# Altium integrated library Analog Devices Data Converters Analog-to-Digital Converters.IntLib: 2400 symbols (part 24 of 338)
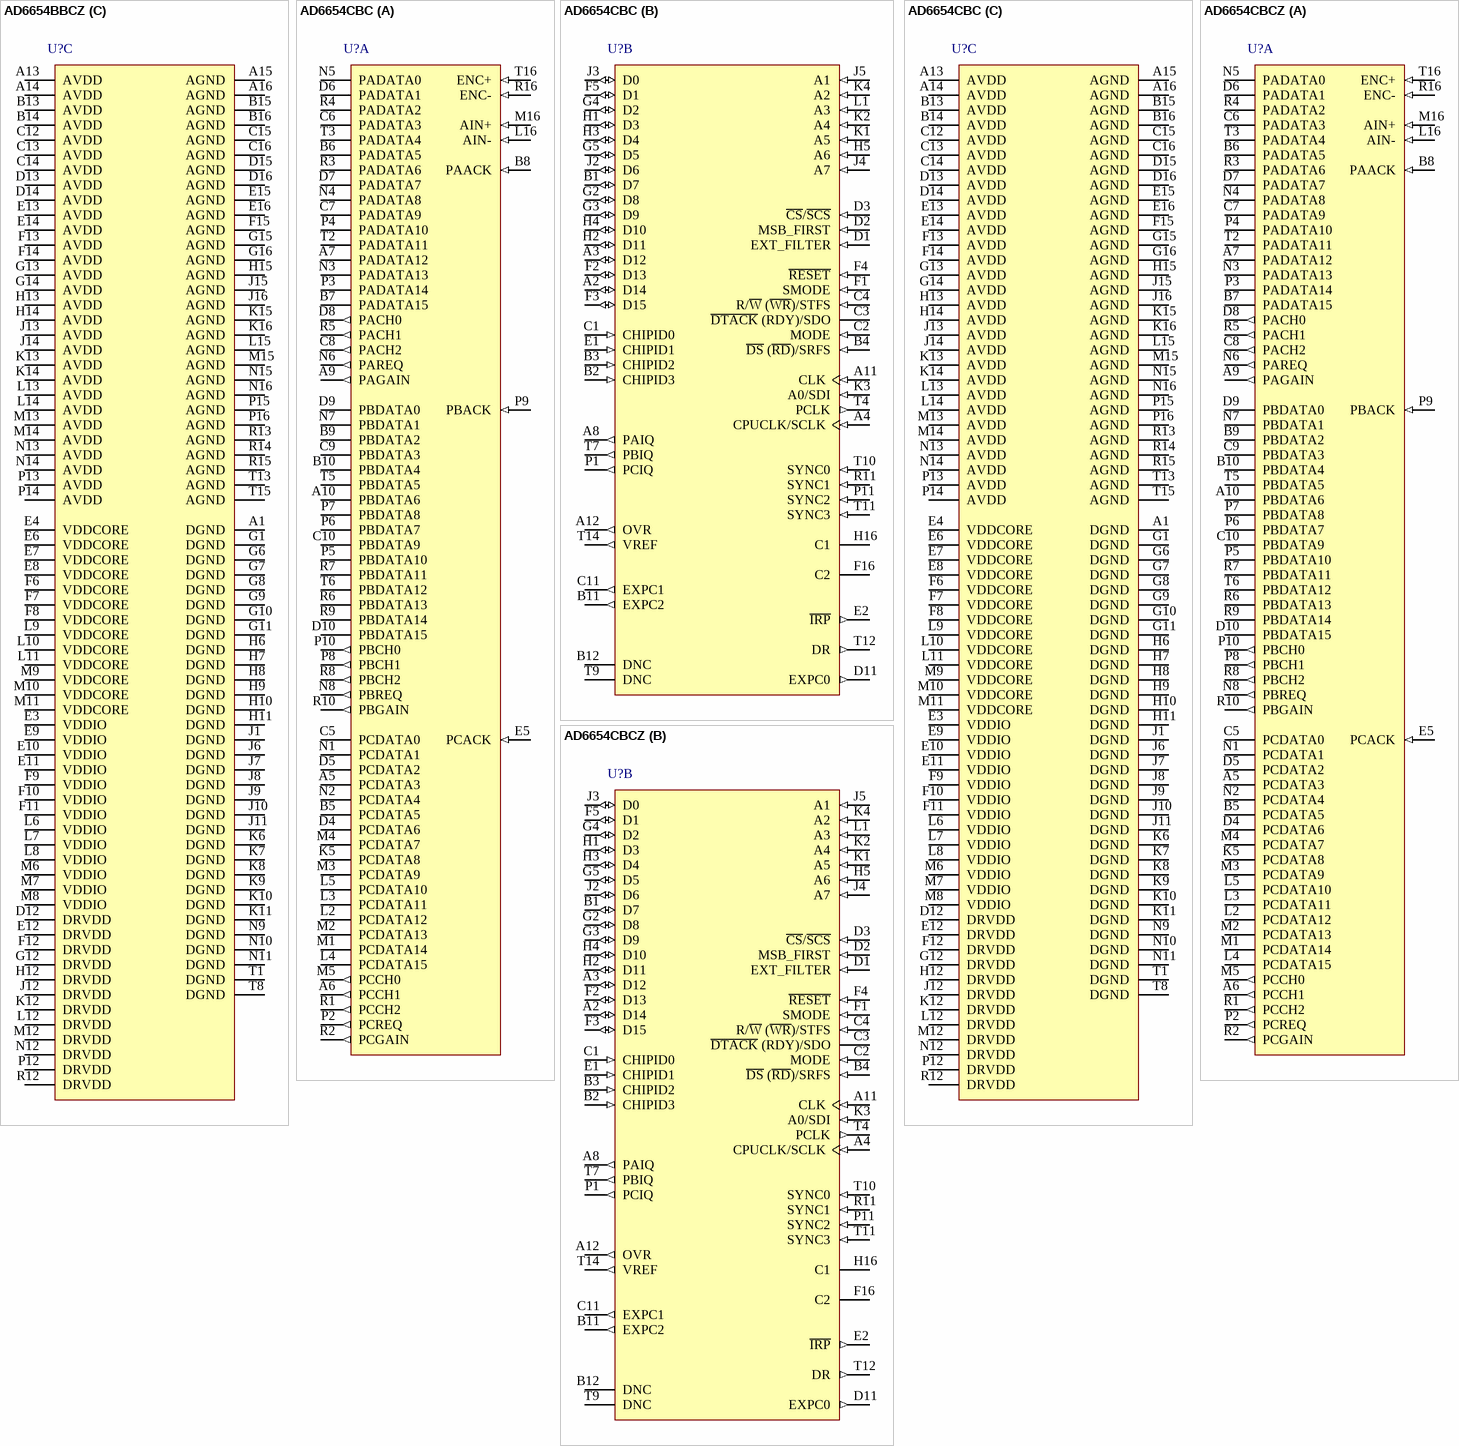
[diagram p168: symbols AD6654BBCZ to AD6654CBCZ]

## AD6654CBC
designator U?
Single 14-Bit Wideband IF to Baseband Receiver with Parallel Interface, 92.16MSPS, 0 to +70 degC, BC-256-2, Tray; Part Number: AD6654; Manufacturer: Analog Devices; Resolution (Bits): 14; Channels: 1; Interface: Par; DatasheetVersion: Rev.0; PackageVersion: 022007-B; PackageReference: BC-256-2; PackageDescription: 256-Ball Chip Scale Package Ball Grid Array [CSP_BGA]; RoHS: N; Packing: Tray; Mounting Technology: Surface Mount; Code_JEDEC: MO-192-AAF-1*; ComponentLink1Description: Manufacturer URL; ComponentLink1URL: http://www.analog.com/en/index.html; ComponentLink2Description: Datasheet; ComponentLink2URL: http://www.analog.com/static/imported-files/data_sheets/AD6654.pdf; ComponentLink3Description: Package Specification; ComponentLink3URL: http://www.analog.com/static/imported-files/packages/5685336469362195555BC_256_2.pdf; ComponentLink4Description: Product URL; ComponentLink4URL: http://www.analog.com/en/analog-to-digital-converters/ad-converters/ad6654/products/product.html
footprint BC-256-2 (BGA, 256-Leads, Body 17x17mm, Pitch 1mm)
part A pins: A5 PCDATA3 (hiz) "Parallel Output Port C Data Bus.", A6 PCCH1 (out) "Channel Indicator Output Port C.", A7 PADATA12 (hiz) "Parallel Output Port A Data Bus.", A9 PAGAIN (out) "Parallel Port A Gain Word Output Indicator. Logic 1 indicates gain word on data bus.", A10 PBDATA6 (hiz) "Parallel Output Port B Data Bus.", B5 PCDATA5 (hiz) "Parallel Output Port C Data Bus.", B6 PADATA5 (hiz) "Parallel Output Port A Data Bus.", B7 PADATA15 (hiz) "Parallel Output Port A Data Bus.", B8 PAACK (in) "Parallel Port A Acknowledge (Active High).", B9 PBDATA2 (hiz) "Parallel Output Port B Data Bus.", B10 PBDATA4 (hiz) "Parallel Output Port B Data Bus.", C5 PCDATA0 (hiz) "Parallel Output Port C Data Bus.", C6 PADATA3 (hiz) "Parallel Output Port A Data Bus.", C7 PADATA9 (hiz) "Parallel Output Port A Data Bus.", C8 PACH2 (out) "Channel Indicator Output Port A", C9 PBDATA3 (hiz) "Parallel Output Port B Data Bus.", C10 PBDATA9 (hiz) "Parallel Output Port B Data Bus.", D4 PCDATA6 (hiz) "Parallel Output Port C Data Bus.", D5 PCDATA2 (hiz) "Parallel Output Port C Data Bus.", D6 PADATA1 (hiz) "Parallel Output Port A Data Bus.", D7 PADATA7 (hiz) "Parallel Output Port A Data Bus.", D8 PACH0 (out) "Channel Indicator Output Port A.", D9 PBDATA0 (hiz) "Parallel Output Port B Data Bus.", D10 PBDATA15 (hiz) "Parallel Output Port B Data Bus.", E5 PCACK (in) "Parallel Port C Acknowledge (Active High).", K5 PCDATA8 (hiz) "Parallel Output Port C Data Bus.", L2 PCDATA12 (hiz) "Parallel Output Port C Data Bus.", L3 PCDATA11 (hiz) "Parallel Output Port C Data Bus.", L4 PCDATA15 (hiz) "Parallel Output Port C Data Bus.", L5 PCDATA10 (hiz) "Parallel Output Port C Data Bus.", L16 AIN- (in) "Differential Analog Input", M1 PCDATA14 (hiz) "Parallel Output Port C Data Bus.", M2 PCDATA13 (hiz) "Parallel Output Port C Data Bus.", M3 PCDATA9 (hiz) "Parallel Output Port C Data Bus.", M4 PCDATA7 (hiz) "Parallel Output Port C Data Bus.", M5 PCCH0 (out) "Channel Indicator Output Port C.", M16 AIN+ (in) "Differential Analog Input.", N1 PCDATA1 (hiz) "Parallel Output Port C Data Bus.", N2 PCDATA4 (hiz) "Parallel Output Port C Data Bus.", N3 PADATA13 (hiz) "Parallel Output Port A Data Bus.", N4 PADATA8 (hiz) "Parallel Output Port A Data Bus.", N5 PADATA0 (hiz) "Parallel Output Port A Data Bus.", N6 PAREQ (out) "Parallel Port A Request (Active High).", N7 PBDATA1 (hiz) "Parallel Output Port B Data Bus.", N8 PBREQ (out) "Parallel Port B Request (Active High)", P2 PCREQ (out) "Parallel Port C Request (Active High).", P3 PADATA14 (hiz) "Parallel Output Port A Data Bus.", P4 PADATA10 (hiz) "Parallel Output Port A Data Bus.", P5 PBDATA10 (hiz) "Parallel Output Port B Data Bus.", P6 PBDATA7 (hiz) "Parallel Output Port B Data Bus.", P7 PBDATA8 (hiz) "Parallel Output Port B Data Bus.", P8 PBCH1 (out) "Channel Indicator Output Port B", P9 PBACK (in) "Parallel Port B Acknowledge (Active High).", P10 PBCH0 (out) "Channel Indicator Output Port B", R1 PCCH2 (out) "Channel Indicator Output Port C.", R2 PCGAIN (out) "Parallel Port C Gain word Output Indicator. Logic 1 indicates gain word on data bus.", R3 PADATA6 (hiz) "Parallel Output Port A Data Bus.", R4 PADATA2 (hiz) "Parallel Output Port A Data Bus.", R5 PACH1 (out) "Channel Indicator Output Port A.", R6 PBDATA13 (hiz) "Parallel Output Port B Data Bus.", R7 PBDATA11 (hiz) "Parallel Output Port B Data Bus.", R8 PBCH2 (out) "Channel Indicator Output Port B", R9 PBDATA14 (hiz) "Parallel Output Port B Data Bus.", R10 PBGAIN (out) "Parallel Port B Gain Word Output Indicator. Logic 1 indicates gain word on data bus.", R16 ENC- (in) "Differential Encode Input.", T2 PADATA11 (hiz) "Parallel Output Port A Data Bus.", T3 PADATA4 (hiz) "Parallel Output Port A Data Bus.", T5 PBDATA5 (hiz) "Parallel Output Port B Data Bus.", T6 PBDATA12 (hiz) "Parallel Output Port B Data Bus.", T16 ENC+ (in) "Differential Encode Input. Conversion initiated on rising edge."
part B pins: A2 D14 (io) "Bidirectional Microport Data. This bus is three-stated when C\S\ is high.", A3 D12 (io) "Bidirectional Microport Data. This bus is three-stated when C\S\ is high.", A4 CPUCLK/SCLK (in) "Microport CLK Input. (Input only.)/Serial Clock. Should have a rise/fall time of 3ns max.", A8 PAIQ (out) "Parallel Port A I/Q Data Indicator. Logic 1 indicates I data on data bus.", A11 CLK (in) "DDC Clock Input.", A12 OVR (out) "Overange Bit. A logic high indicates analog input exceeds +/-FS.", B1 D7 (io) "Bidirectional Microport Data. This bus is three-stated when C\S\ is high.", B2 CHIPID3 (in) "Chip ID Input Pins.", B3 CHIPID2 (in) "Chip ID Input Pins.", B4 ~{DS} (~{RD})/SRFS (in) "Active Low Data Strobe, MODE = 1. Active low read strobe when MODE = 0./Serial Receive Frame Sync.", B11 EXPC2 (out) "External VGA Gain Control Bits. GND all pins if not used.", B12 DNC "Do Not Connect.", C1 CHIPID0 (in) "Chip ID Input Pins.", C2 MODE (in) "Mode Select. Logic 0 = Intel?mode, Logic 1 = Motorola mode.", C3 ~{DTACK} (RDY)/SDO (hiz) "Active Low Data Acknowledge, MODE = 1. Microport status pin when MODE = 0. Terminate to VDDIO through external 1 k ohm pull-up resistor./ Serial Port Data Output. Terminate to VDDIO through external 1 kO pull-up resistor.", C4 R/~{W} (~{WR})/STFS (in) "Read/Write Strobe, MODE = 1. Active low write strobe when MODE = 0./ Serial Transmit Frame Sync.", C11 EXPC1 (out) "External VGA Gain Control Bits. GND all pins if not used.", D1 EXT_FILTER (in) "PLL Loop Filter (Analog Pin). Connect to VDDCORE through series 250 ohm and 0.01 µF capacitor.", D2 MSB_FIRST (in) "Most Significant Bit_First. Selects MSB_FIRST into SDI pin, and MSB_FIRST out of SDO pin. Logic 1 = MSB_FIRST; Logic 0 = LSB_FIRST", D3 ~{CS}/~{SCS} (in) "Active Low Chip Select. Logic 1 three-states the microport data bus./ Serial Chip Select.", D11 EXPC0 (out) "External VGA Gain Control Bits. GND all pins if not used.", E1 CHIPID1 (in) "Chip ID Input Pins.", E2 ~{IRP} (out) "Interrupt Pin (Active Low). Terminate to VDDIO through external 1 k ohm pull-up resistor.", F1 SMODE (in) "Serial Mode Select.", F2 D13 (io) "Bidirectional Microport Data. This bus is three-stated when C\S\ is high.", F3 D15 (io) "Bidirectional Microport Data. This bus is three-stated when C\S\ is high.", F4 ~{RESET} (in) "Master Reset, Active Low.", F5 D1 (io) "Bidirectional Microport Data. This bus is three-stated when C\S\ is high.", F16 C2 "Compensation Pin for ADC Voltage Reference. Bypass to AGND with 0.1 µF chip capacitor.", G2 D8 (io) "Bidirectional Microport Data. This bus is three-stated when C\S\ is high.", G3 D9 (io) "Bidirectional Microport Data. This bus is three-stated when C\S\ is high.", G4 D2 (io) "Bidirectional Microport Data. This bus is three-stated when C\S\ is high.", G5 D5 (io) "Bidirectional Microport Data. This bus is three-stated when C\S\ is high.", H1 D3 (io) "Bidirectional Microport Data. This bus is three-stated when C\S\ is high.", H2 D11 (io) "Bidirectional Microport Data. This bus is three-stated when C\S\ is high.", H3 D4 (io) "Bidirectional Microport Data. This bus is three-stated when C\S\ is high.", H4 D10 (io) "Bidirectional Microport Data. This bus is three-stated when C\S\ is high.", H5 A6 (in) "Microport Address Bus.", H16 C1 "Compensation Pin for ADC Voltage Reference. Bypass to AGND with 0.1 µF chip capacitor.", J2 D6 (io) "Bidirectional Microport Data. This bus is three-stated when C\S\ is high.", J3 D0 (io) "Bidirectional Microport Data. This bus is three-stated when C\S\ is high.", J4 A7 (in) "Microport Address Bus.", J5 A1 (in) "Microport Address Bus.", K1 A5 (in) "Microport Address Bus.", K2 A4 (in) "Microport Address Bus.", K3 A0/SDI (in) "Serial Port Data Input.", K4 A2 (in) "Microport Address Bus.", L1 A3 (in) "Microport Address Bus.", P1 PCIQ (out) "Parallel Port C I/Q Data Indicator. Logic 1 indicates I data on data bus.", P11 SYNC2 (in) "Synchronization Input 2.", R11 SYNC1 (in) "Synchronization Input 1.", T4 PCLK (out) "Parallel Output Port Clock. PCLK is bi-directional: master mode = output, slave mode = input.", T7 PBIQ (out) "Parallel Port B I/Q Data Indicator. Logic 1 indicates I data on data bus.", T9 DNC "Do Not Connect.", T10 SYNC0 (in) "Synchronization Input 0. SYNC pins are independent of channels.", T11 SYNC3 (in) "Synchronization Input 3.", T12 DR (out) "Data Ready. Inverted and delayed representation of ENC+ used for driving the DDC CLK input.", T14 VREF (out) "2.4 V Fixed Internal Voltage Reference. Bypass to AGND with 0.1 uF chip capacitor."
part C pins: A1 DGND (power) "Digital Core and I/O Ground.", A13 AVDD (power) "5 V Analog ADC Core Supply.", A14 AVDD (power) "5 V Analog ADC Core Supply.", A15 AGND (power) "Analog ADC Ground.", A16 AGND (power) "Analog ADC Ground.", B13 AVDD (power) "5 V Analog ADC Core Supply.", B14 AVDD (power) "5 V Analog ADC Core Supply.", B15 AGND (power) "Analog ADC Ground.", B16 AGND (power) "Analog ADC Ground.", C12 AVDD (power) "5 V Analog ADC Core Supply.", C13 AVDD (power) "5 V Analog ADC Core Supply.", C14 AVDD (power) "5 V Analog ADC Core Supply.", C15 AGND (power) "Analog ADC Ground.", C16 AGND (power) "Analog ADC Ground.", D12 DRVDD (power) "3.3 V ADC Output Driver Supply", D13 AVDD (power) "5 V Analog ADC Core Supply.", D14 AVDD (power) "5 V Analog ADC Core Supply.", D15 AGND (power) "Analog ADC Ground.", D16 AGND (power) "Analog ADC Ground.", E3 VDDIO (power) "3.3 V Digital DDC I/O Supply.", E4 VDDCORE (power) "1.8 V Digital DDC Core Supply", E6 VDDCORE (power) "1.8 V Digital DDC Core Supply", E7 VDDCORE (power) "1.8 V Digital DDC Core Supply", E8 VDDCORE (power) "1.8 V Digital DDC Core Supply", E9 VDDIO (power) "3.3 V Digital DDC I/O Supply.", E10 VDDIO (power) "3.3 V Digital DDC I/O Supply.", E11 VDDIO (power) "3.3 V Digital DDC I/O Supply.", E12 DRVDD (power) "3.3 V ADC Output Driver Supply", E13 AVDD (power) "5 V Analog ADC Core Supply.", E14 AVDD (power) "5 V Analog ADC Core Supply.", E15 AGND (power) "Analog ADC Ground.", E16 AGND (power) "Analog ADC Ground.", F6 VDDCORE (power) "1.8 V Digital DDC Core Supply", F7 VDDCORE (power) "1.8 V Digital DDC Core Supply", F8 VDDCORE (power) "1.8 V Digital DDC Core Supply", F9 VDDIO (power) "3.3 V Digital DDC I/O Supply.", F10 VDDIO (power) "3.3 V Digital DDC I/O Supply.", F11 VDDIO (power) "3.3 V Digital DDC I/O Supply.", F12 DRVDD (power) "3.3 V ADC Output Driver Supply", F13 AVDD (power) "5 V Analog ADC Core Supply.", F14 AVDD (power) "5 V Analog ADC Core Supply.", F15 AGND (power) "Analog ADC Ground.", G1 DGND (power) "Digital Core and I/O Ground.", G6 DGND (power) "Digital Core and I/O Ground.", G7 DGND (power) "Digital Core and I/O Ground.", G8 DGND (power) "Digital Core and I/O Ground.", G9 DGND (power) "Digital Core and I/O Ground.", G10 DGND (power) "Digital Core and I/O Ground.", G11 DGND (power) "Digital Core and I/O Ground.", G12 DRVDD (power) "3.3 V ADC Output Driver Supply", G13 AVDD (power) "5 V Analog ADC Core Supply.", G14 AVDD (power) "5 V Analog ADC Core Supply.", G15 AGND (power) "Analog ADC Ground.", G16 AGND (power) "Analog ADC Ground.", H6 DGND (power) "Digital Core and I/O Ground.", H7 DGND (power) "Digital Core and I/O Ground.", H8 DGND (power) "Digital Core and I/O Ground.", H9 DGND (power) "Digital Core and I/O Ground.", H10 DGND (power) "Digital Core and I/O Ground.", H11 DGND (power) "Digital Core and I/O Ground.", H12 DRVDD (power) "3.3 V ADC Output Driver Supply", H13 AVDD (power) "5 V Analog ADC Core Supply.", H14 AVDD (power) "5 V Analog ADC Core Supply.", H15 AGND (power) "Analog ADC Ground.", J1 DGND (power) "Digital Core and I/O Ground.", J6 DGND (power) "Digital Core and I/O Ground.", J7 DGND (power) "Digital Core and I/O Ground.", J8 DGND (power) "Digital Core and I/O Ground.", J9 DGND (power) "Digital Core and I/O Ground.", J10 DGND (power) "Digital Core and I/O Ground.", J11 DGND (power) "Digital Core and I/O Ground.", J12 DRVDD (power) "3.3 V ADC Output Driver Supply", J13 AVDD (power) "5 V Analog ADC Core Supply.", J14 AVDD (power) "5 V Analog ADC Core Supply.", J15 AGND (power) "Analog ADC Ground.", J16 AGND (power) "Analog ADC Ground.", K6 DGND (power) "Digital Core and I/O Ground.", K7 DGND (power) "Digital Core and I/O Ground.", K8 DGND (power) "Digital Core and I/O Ground.", K9 DGND (power) "Digital Core and I/O Ground.", K10 DGND (power) "Digital Core and I/O Ground.", K11 DGND (power) "Digital Core and I/O Ground.", K12 DRVDD (power) "3.3 V ADC Output Driver Supply", K13 AVDD (power) "5 V Analog ADC Core Supply.", K14 AVDD (power) "5 V Analog ADC Core Supply.", K15 AGND (power) "Analog ADC Ground.", K16 AGND (power) "Analog ADC Ground.", L6 VDDIO (power) "3.3 V Digital DDC I/O Supply.", L7 VDDIO (power) "3.3 V Digital DDC I/O Supply.", L8 VDDIO (power) "3.3 V Digital DDC I/O Supply.", L9 VDDCORE (power) "1.8 V Digital DDC Core Supply", L10 VDDCORE (power) "1.8 V Digital DDC Core Supply", L11 VDDCORE (power) "1.8 V Digital DDC Core Supply", L12 DRVDD (power) "3.3 V ADC Output Driver Supply", L13 AVDD (power) "5 V Analog ADC Core Supply.", L14 AVDD (power) "5 V Analog ADC Core Supply.", L15 AGND (power) "Analog ADC Ground.", M6 VDDIO (power) "3.3 V Digital DDC I/O Supply.", M7 VDDIO (power) "3.3 V Digital DDC I/O Supply.", M8 VDDIO (power) "3.3 V Digital DDC I/O Supply.", M9 VDDCORE (power) "1.8 V Digital DDC Core Supply", M10 VDDCORE (power) "1.8 V Digital DDC Core Supply", M11 VDDCORE (power) "1.8 V Digital DDC Core Supply", M12 DRVDD (power) "3.3 V ADC Output Driver Supply", M13 AVDD (power) "5 V Analog ADC Core Supply.", M14 AVDD (power) "5 V Analog ADC Core Supply.", M15 AGND (power) "Analog ADC Ground.", N9 DGND (power) "Digital Core and I/O Ground.", N10 DGND (power) "Digital Core and I/O Ground.", N11 DGND (power) "Digital Core and I/O Ground.", N12 DRVDD (power) "3.3 V ADC Output Driver Supply", N13 AVDD (power) "5 V Analog ADC Core Supply.", N14 AVDD (power) "5 V Analog ADC Core Supply.", N15 AGND (power) "Analog ADC Ground.", N16 AGND (power) "Analog ADC Ground.", P12 DRVDD (power) "3.3 V ADC Output Driver Supply", P13 AVDD (power) "5 V Analog ADC Core Supply.", P14 AVDD (power) "5 V Analog ADC Core Supply.", P15 AGND (power) "Analog ADC Ground.", P16 AGND (power) "Analog ADC Ground.", R12 DRVDD (power) "3.3 V ADC Output Driver Supply", R13 AGND (power) "Analog ADC Ground.", R14 AGND (power) "Analog ADC Ground.", R15 AGND (power) "Analog ADC Ground.", T1 DGND (power) "Digital Core and I/O Ground.", T8 DGND (power) "Digital Core and I/O Ground.", T13 AGND (power) "Analog ADC Ground.", T15 AGND (power) "Analog ADC Ground."

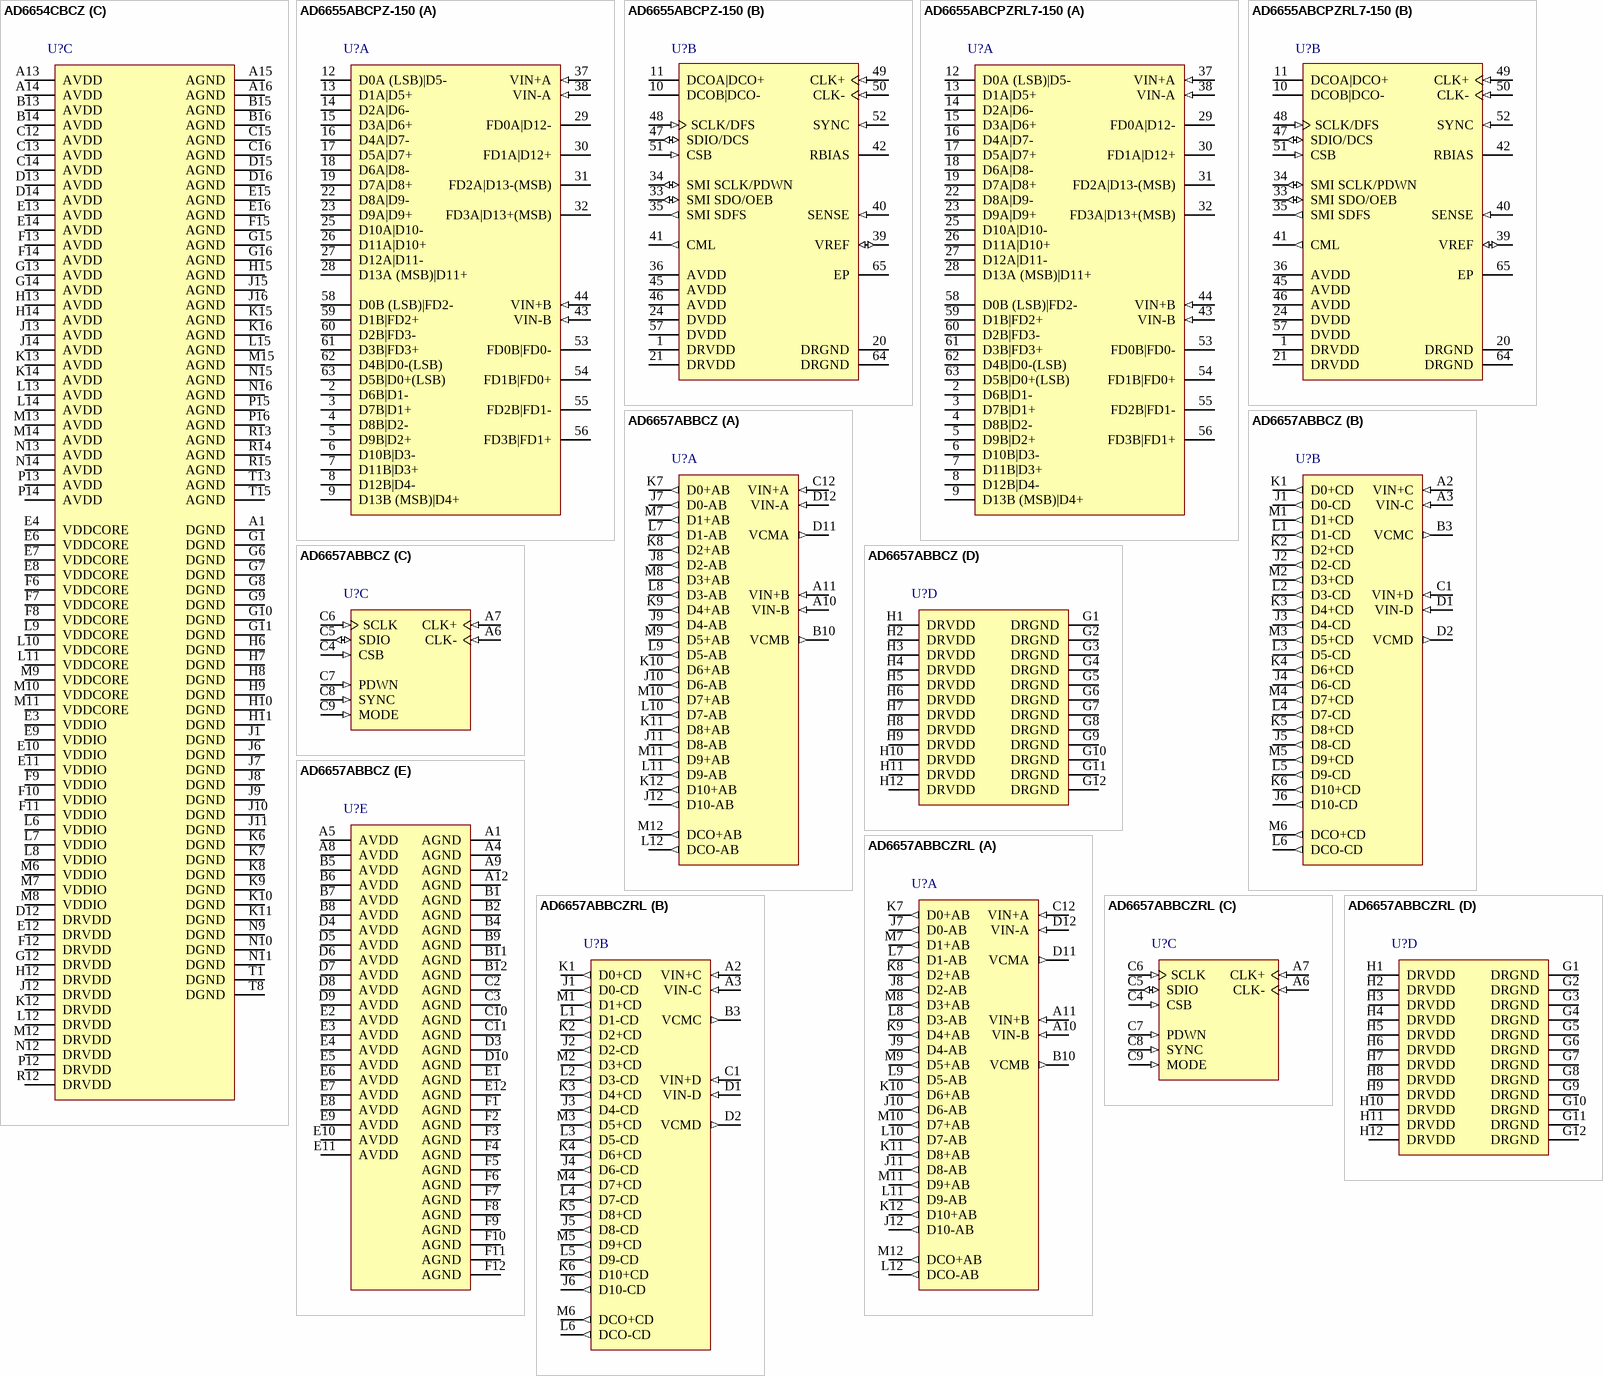
[diagram p11: symbols AD6654CBCZ to AD6657ABBCZRL]

## AD6654CBCZ
designator U?
Single 14-Bit Wideband IF to Baseband Receiver with Parallel Interface, 92.16MSPS, 0 to +70 degC, BC-256-2, Pb-Free, Tray; Part Number: AD6654; Manufacturer: Analog Devices; Resolution (Bits): 14; Channels: 1; Interface: Par; DatasheetVersion: Rev.0; PackageVersion: 022007-B; PackageReference: BC-256-2; PackageDescription: 256-Ball Chip Scale Package Ball Grid Array [CSP_BGA]; RoHS: Y; Packing: Tray; Mounting Technology: Surface Mount; Code_JEDEC: MO-192-AAF-1*; ComponentLink1Description: Manufacturer URL; ComponentLink1URL: http://www.analog.com/en/index.html; ComponentLink2Description: Datasheet; ComponentLink2URL: http://www.analog.com/static/imported-files/data_sheets/AD6654.pdf; ComponentLink3Description: Package Specification; ComponentLink3URL: http://www.analog.com/static/imported-files/packages/5685336469362195555BC_256_2.pdf; ComponentLink4Description: Product URL; ComponentLink4URL: http://www.analog.com/en/analog-to-digital-converters/ad-converters/ad6654/products/product.html
footprint BC-256-2 (BGA, 256-Leads, Body 17x17mm, Pitch 1mm)
part A pins: A5 PCDATA3 (hiz) "Parallel Output Port C Data Bus.", A6 PCCH1 (out) "Channel Indicator Output Port C.", A7 PADATA12 (hiz) "Parallel Output Port A Data Bus.", A9 PAGAIN (out) "Parallel Port A Gain Word Output Indicator. Logic 1 indicates gain word on data bus.", A10 PBDATA6 (hiz) "Parallel Output Port B Data Bus.", B5 PCDATA5 (hiz) "Parallel Output Port C Data Bus.", B6 PADATA5 (hiz) "Parallel Output Port A Data Bus.", B7 PADATA15 (hiz) "Parallel Output Port A Data Bus.", B8 PAACK (in) "Parallel Port A Acknowledge (Active High).", B9 PBDATA2 (hiz) "Parallel Output Port B Data Bus.", B10 PBDATA4 (hiz) "Parallel Output Port B Data Bus.", C5 PCDATA0 (hiz) "Parallel Output Port C Data Bus.", C6 PADATA3 (hiz) "Parallel Output Port A Data Bus.", C7 PADATA9 (hiz) "Parallel Output Port A Data Bus.", C8 PACH2 (out) "Channel Indicator Output Port A", C9 PBDATA3 (hiz) "Parallel Output Port B Data Bus.", C10 PBDATA9 (hiz) "Parallel Output Port B Data Bus.", D4 PCDATA6 (hiz) "Parallel Output Port C Data Bus.", D5 PCDATA2 (hiz) "Parallel Output Port C Data Bus.", D6 PADATA1 (hiz) "Parallel Output Port A Data Bus.", D7 PADATA7 (hiz) "Parallel Output Port A Data Bus.", D8 PACH0 (out) "Channel Indicator Output Port A.", D9 PBDATA0 (hiz) "Parallel Output Port B Data Bus.", D10 PBDATA15 (hiz) "Parallel Output Port B Data Bus.", E5 PCACK (in) "Parallel Port C Acknowledge (Active High).", K5 PCDATA8 (hiz) "Parallel Output Port C Data Bus.", L2 PCDATA12 (hiz) "Parallel Output Port C Data Bus.", L3 PCDATA11 (hiz) "Parallel Output Port C Data Bus.", L4 PCDATA15 (hiz) "Parallel Output Port C Data Bus.", L5 PCDATA10 (hiz) "Parallel Output Port C Data Bus.", L16 AIN- (in) "Differential Analog Input", M1 PCDATA14 (hiz) "Parallel Output Port C Data Bus.", M2 PCDATA13 (hiz) "Parallel Output Port C Data Bus.", M3 PCDATA9 (hiz) "Parallel Output Port C Data Bus.", M4 PCDATA7 (hiz) "Parallel Output Port C Data Bus.", M5 PCCH0 (out) "Channel Indicator Output Port C.", M16 AIN+ (in) "Differential Analog Input.", N1 PCDATA1 (hiz) "Parallel Output Port C Data Bus.", N2 PCDATA4 (hiz) "Parallel Output Port C Data Bus.", N3 PADATA13 (hiz) "Parallel Output Port A Data Bus.", N4 PADATA8 (hiz) "Parallel Output Port A Data Bus.", N5 PADATA0 (hiz) "Parallel Output Port A Data Bus.", N6 PAREQ (out) "Parallel Port A Request (Active High).", N7 PBDATA1 (hiz) "Parallel Output Port B Data Bus.", N8 PBREQ (out) "Parallel Port B Request (Active High)", P2 PCREQ (out) "Parallel Port C Request (Active High).", P3 PADATA14 (hiz) "Parallel Output Port A Data Bus.", P4 PADATA10 (hiz) "Parallel Output Port A Data Bus.", P5 PBDATA10 (hiz) "Parallel Output Port B Data Bus.", P6 PBDATA7 (hiz) "Parallel Output Port B Data Bus.", P7 PBDATA8 (hiz) "Parallel Output Port B Data Bus.", P8 PBCH1 (out) "Channel Indicator Output Port B", P9 PBACK (in) "Parallel Port B Acknowledge (Active High).", P10 PBCH0 (out) "Channel Indicator Output Port B", R1 PCCH2 (out) "Channel Indicator Output Port C.", R2 PCGAIN (out) "Parallel Port C Gain word Output Indicator. Logic 1 indicates gain word on data bus.", R3 PADATA6 (hiz) "Parallel Output Port A Data Bus.", R4 PADATA2 (hiz) "Parallel Output Port A Data Bus.", R5 PACH1 (out) "Channel Indicator Output Port A.", R6 PBDATA13 (hiz) "Parallel Output Port B Data Bus.", R7 PBDATA11 (hiz) "Parallel Output Port B Data Bus.", R8 PBCH2 (out) "Channel Indicator Output Port B", R9 PBDATA14 (hiz) "Parallel Output Port B Data Bus.", R10 PBGAIN (out) "Parallel Port B Gain Word Output Indicator. Logic 1 indicates gain word on data bus.", R16 ENC- (in) "Differential Encode Input.", T2 PADATA11 (hiz) "Parallel Output Port A Data Bus.", T3 PADATA4 (hiz) "Parallel Output Port A Data Bus.", T5 PBDATA5 (hiz) "Parallel Output Port B Data Bus.", T6 PBDATA12 (hiz) "Parallel Output Port B Data Bus.", T16 ENC+ (in) "Differential Encode Input. Conversion initiated on rising edge."
part B pins: A2 D14 (io) "Bidirectional Microport Data. This bus is three-stated when C\S\ is high.", A3 D12 (io) "Bidirectional Microport Data. This bus is three-stated when C\S\ is high.", A4 CPUCLK/SCLK (in) "Microport CLK Input. (Input only.)/Serial Clock. Should have a rise/fall time of 3ns max.", A8 PAIQ (out) "Parallel Port A I/Q Data Indicator. Logic 1 indicates I data on data bus.", A11 CLK (in) "DDC Clock Input.", A12 OVR (out) "Overange Bit. A logic high indicates analog input exceeds +/-FS.", B1 D7 (io) "Bidirectional Microport Data. This bus is three-stated when C\S\ is high.", B2 CHIPID3 (in) "Chip ID Input Pins.", B3 CHIPID2 (in) "Chip ID Input Pins.", B4 ~{DS} (~{RD})/SRFS (in) "Active Low Data Strobe, MODE = 1. Active low read strobe when MODE = 0./Serial Receive Frame Sync.", B11 EXPC2 (out) "External VGA Gain Control Bits. GND all pins if not used.", B12 DNC "Do Not Connect.", C1 CHIPID0 (in) "Chip ID Input Pins.", C2 MODE (in) "Mode Select. Logic 0 = Intel?mode, Logic 1 = Motorola mode.", C3 ~{DTACK} (RDY)/SDO (hiz) "Active Low Data Acknowledge, MODE = 1. Microport status pin when MODE = 0. Terminate to VDDIO through external 1 k ohm pull-up resistor./ Serial Port Data Output. Terminate to VDDIO through external 1 kO pull-up resistor.", C4 R/~{W} (~{WR})/STFS (in) "Read/Write Strobe, MODE = 1. Active low write strobe when MODE = 0./ Serial Transmit Frame Sync.", C11 EXPC1 (out) "External VGA Gain Control Bits. GND all pins if not used.", D1 EXT_FILTER (in) "PLL Loop Filter (Analog Pin). Connect to VDDCORE through series 250 ohm and 0.01 µF capacitor.", D2 MSB_FIRST (in) "Most Significant Bit_First. Selects MSB_FIRST into SDI pin, and MSB_FIRST out of SDO pin. Logic 1 = MSB_FIRST; Logic 0 = LSB_FIRST", D3 ~{CS}/~{SCS} (in) "Active Low Chip Select. Logic 1 three-states the microport data bus./ Serial Chip Select.", D11 EXPC0 (out) "External VGA Gain Control Bits. GND all pins if not used.", E1 CHIPID1 (in) "Chip ID Input Pins.", E2 ~{IRP} (out) "Interrupt Pin (Active Low). Terminate to VDDIO through external 1 k ohm pull-up resistor.", F1 SMODE (in) "Serial Mode Select.", F2 D13 (io) "Bidirectional Microport Data. This bus is three-stated when C\S\ is high.", F3 D15 (io) "Bidirectional Microport Data. This bus is three-stated when C\S\ is high.", F4 ~{RESET} (in) "Master Reset, Active Low.", F5 D1 (io) "Bidirectional Microport Data. This bus is three-stated when C\S\ is high.", F16 C2 "Compensation Pin for ADC Voltage Reference. Bypass to AGND with 0.1 µF chip capacitor.", G2 D8 (io) "Bidirectional Microport Data. This bus is three-stated when C\S\ is high.", G3 D9 (io) "Bidirectional Microport Data. This bus is three-stated when C\S\ is high.", G4 D2 (io) "Bidirectional Microport Data. This bus is three-stated when C\S\ is high.", G5 D5 (io) "Bidirectional Microport Data. This bus is three-stated when C\S\ is high.", H1 D3 (io) "Bidirectional Microport Data. This bus is three-stated when C\S\ is high.", H2 D11 (io) "Bidirectional Microport Data. This bus is three-stated when C\S\ is high.", H3 D4 (io) "Bidirectional Microport Data. This bus is three-stated when C\S\ is high.", H4 D10 (io) "Bidirectional Microport Data. This bus is three-stated when C\S\ is high.", H5 A6 (in) "Microport Address Bus.", H16 C1 "Compensation Pin for ADC Voltage Reference. Bypass to AGND with 0.1 µF chip capacitor.", J2 D6 (io) "Bidirectional Microport Data. This bus is three-stated when C\S\ is high.", J3 D0 (io) "Bidirectional Microport Data. This bus is three-stated when C\S\ is high.", J4 A7 (in) "Microport Address Bus.", J5 A1 (in) "Microport Address Bus.", K1 A5 (in) "Microport Address Bus.", K2 A4 (in) "Microport Address Bus.", K3 A0/SDI (in) "Serial Port Data Input.", K4 A2 (in) "Microport Address Bus.", L1 A3 (in) "Microport Address Bus.", P1 PCIQ (out) "Parallel Port C I/Q Data Indicator. Logic 1 indicates I data on data bus.", P11 SYNC2 (in) "Synchronization Input 2.", R11 SYNC1 (in) "Synchronization Input 1.", T4 PCLK (out) "Parallel Output Port Clock. PCLK is bi-directional: master mode = output, slave mode = input.", T7 PBIQ (out) "Parallel Port B I/Q Data Indicator. Logic 1 indicates I data on data bus.", T9 DNC "Do Not Connect.", T10 SYNC0 (in) "Synchronization Input 0. SYNC pins are independent of channels.", T11 SYNC3 (in) "Synchronization Input 3.", T12 DR (out) "Data Ready. Inverted and delayed representation of ENC+ used for driving the DDC CLK input.", T14 VREF (out) "2.4 V Fixed Internal Voltage Reference. Bypass to AGND with 0.1 uF chip capacitor."
part C pins: A1 DGND (power) "Digital Core and I/O Ground.", A13 AVDD (power) "5 V Analog ADC Core Supply.", A14 AVDD (power) "5 V Analog ADC Core Supply.", A15 AGND (power) "Analog ADC Ground.", A16 AGND (power) "Analog ADC Ground.", B13 AVDD (power) "5 V Analog ADC Core Supply.", B14 AVDD (power) "5 V Analog ADC Core Supply.", B15 AGND (power) "Analog ADC Ground.", B16 AGND (power) "Analog ADC Ground.", C12 AVDD (power) "5 V Analog ADC Core Supply.", C13 AVDD (power) "5 V Analog ADC Core Supply.", C14 AVDD (power) "5 V Analog ADC Core Supply.", C15 AGND (power) "Analog ADC Ground.", C16 AGND (power) "Analog ADC Ground.", D12 DRVDD (power) "3.3 V ADC Output Driver Supply", D13 AVDD (power) "5 V Analog ADC Core Supply.", D14 AVDD (power) "5 V Analog ADC Core Supply.", D15 AGND (power) "Analog ADC Ground.", D16 AGND (power) "Analog ADC Ground.", E3 VDDIO (power) "3.3 V Digital DDC I/O Supply.", E4 VDDCORE (power) "1.8 V Digital DDC Core Supply", E6 VDDCORE (power) "1.8 V Digital DDC Core Supply", E7 VDDCORE (power) "1.8 V Digital DDC Core Supply", E8 VDDCORE (power) "1.8 V Digital DDC Core Supply", E9 VDDIO (power) "3.3 V Digital DDC I/O Supply.", E10 VDDIO (power) "3.3 V Digital DDC I/O Supply.", E11 VDDIO (power) "3.3 V Digital DDC I/O Supply.", E12 DRVDD (power) "3.3 V ADC Output Driver Supply", E13 AVDD (power) "5 V Analog ADC Core Supply.", E14 AVDD (power) "5 V Analog ADC Core Supply.", E15 AGND (power) "Analog ADC Ground.", E16 AGND (power) "Analog ADC Ground.", F6 VDDCORE (power) "1.8 V Digital DDC Core Supply", F7 VDDCORE (power) "1.8 V Digital DDC Core Supply", F8 VDDCORE (power) "1.8 V Digital DDC Core Supply", F9 VDDIO (power) "3.3 V Digital DDC I/O Supply.", F10 VDDIO (power) "3.3 V Digital DDC I/O Supply.", F11 VDDIO (power) "3.3 V Digital DDC I/O Supply.", F12 DRVDD (power) "3.3 V ADC Output Driver Supply", F13 AVDD (power) "5 V Analog ADC Core Supply.", F14 AVDD (power) "5 V Analog ADC Core Supply.", F15 AGND (power) "Analog ADC Ground.", G1 DGND (power) "Digital Core and I/O Ground.", G6 DGND (power) "Digital Core and I/O Ground.", G7 DGND (power) "Digital Core and I/O Ground.", G8 DGND (power) "Digital Core and I/O Ground.", G9 DGND (power) "Digital Core and I/O Ground.", G10 DGND (power) "Digital Core and I/O Ground.", G11 DGND (power) "Digital Core and I/O Ground.", G12 DRVDD (power) "3.3 V ADC Output Driver Supply", G13 AVDD (power) "5 V Analog ADC Core Supply.", G14 AVDD (power) "5 V Analog ADC Core Supply.", G15 AGND (power) "Analog ADC Ground.", G16 AGND (power) "Analog ADC Ground.", H6 DGND (power) "Digital Core and I/O Ground.", H7 DGND (power) "Digital Core and I/O Ground.", H8 DGND (power) "Digital Core and I/O Ground.", H9 DGND (power) "Digital Core and I/O Ground.", H10 DGND (power) "Digital Core and I/O Ground.", H11 DGND (power) "Digital Core and I/O Ground.", H12 DRVDD (power) "3.3 V ADC Output Driver Supply", H13 AVDD (power) "5 V Analog ADC Core Supply.", H14 AVDD (power) "5 V Analog ADC Core Supply.", H15 AGND (power) "Analog ADC Ground.", J1 DGND (power) "Digital Core and I/O Ground.", J6 DGND (power) "Digital Core and I/O Ground.", J7 DGND (power) "Digital Core and I/O Ground.", J8 DGND (power) "Digital Core and I/O Ground.", J9 DGND (power) "Digital Core and I/O Ground.", J10 DGND (power) "Digital Core and I/O Ground.", J11 DGND (power) "Digital Core and I/O Ground.", J12 DRVDD (power) "3.3 V ADC Output Driver Supply", J13 AVDD (power) "5 V Analog ADC Core Supply.", J14 AVDD (power) "5 V Analog ADC Core Supply.", J15 AGND (power) "Analog ADC Ground.", J16 AGND (power) "Analog ADC Ground.", K6 DGND (power) "Digital Core and I/O Ground.", K7 DGND (power) "Digital Core and I/O Ground.", K8 DGND (power) "Digital Core and I/O Ground.", K9 DGND (power) "Digital Core and I/O Ground.", K10 DGND (power) "Digital Core and I/O Ground.", K11 DGND (power) "Digital Core and I/O Ground.", K12 DRVDD (power) "3.3 V ADC Output Driver Supply", K13 AVDD (power) "5 V Analog ADC Core Supply.", K14 AVDD (power) "5 V Analog ADC Core Supply.", K15 AGND (power) "Analog ADC Ground.", K16 AGND (power) "Analog ADC Ground.", L6 VDDIO (power) "3.3 V Digital DDC I/O Supply.", L7 VDDIO (power) "3.3 V Digital DDC I/O Supply.", L8 VDDIO (power) "3.3 V Digital DDC I/O Supply.", L9 VDDCORE (power) "1.8 V Digital DDC Core Supply", L10 VDDCORE (power) "1.8 V Digital DDC Core Supply", L11 VDDCORE (power) "1.8 V Digital DDC Core Supply", L12 DRVDD (power) "3.3 V ADC Output Driver Supply", L13 AVDD (power) "5 V Analog ADC Core Supply.", L14 AVDD (power) "5 V Analog ADC Core Supply.", L15 AGND (power) "Analog ADC Ground.", M6 VDDIO (power) "3.3 V Digital DDC I/O Supply.", M7 VDDIO (power) "3.3 V Digital DDC I/O Supply.", M8 VDDIO (power) "3.3 V Digital DDC I/O Supply.", M9 VDDCORE (power) "1.8 V Digital DDC Core Supply", M10 VDDCORE (power) "1.8 V Digital DDC Core Supply", M11 VDDCORE (power) "1.8 V Digital DDC Core Supply", M12 DRVDD (power) "3.3 V ADC Output Driver Supply", M13 AVDD (power) "5 V Analog ADC Core Supply.", M14 AVDD (power) "5 V Analog ADC Core Supply.", M15 AGND (power) "Analog ADC Ground.", N9 DGND (power) "Digital Core and I/O Ground.", N10 DGND (power) "Digital Core and I/O Ground.", N11 DGND (power) "Digital Core and I/O Ground.", N12 DRVDD (power) "3.3 V ADC Output Driver Supply", N13 AVDD (power) "5 V Analog ADC Core Supply.", N14 AVDD (power) "5 V Analog ADC Core Supply.", N15 AGND (power) "Analog ADC Ground.", N16 AGND (power) "Analog ADC Ground.", P12 DRVDD (power) "3.3 V ADC Output Driver Supply", P13 AVDD (power) "5 V Analog ADC Core Supply.", P14 AVDD (power) "5 V Analog ADC Core Supply.", P15 AGND (power) "Analog ADC Ground.", P16 AGND (power) "Analog ADC Ground.", R12 DRVDD (power) "3.3 V ADC Output Driver Supply", R13 AGND (power) "Analog ADC Ground.", R14 AGND (power) "Analog ADC Ground.", R15 AGND (power) "Analog ADC Ground.", T1 DGND (power) "Digital Core and I/O Ground.", T8 DGND (power) "Digital Core and I/O Ground.", T13 AGND (power) "Analog ADC Ground.", T15 AGND (power) "Analog ADC Ground."

## AD6655ABCPZ-150
designator U?
Dual IF Diversity Receiver, 150MSPS, -40 to +85 degC, CP-64-6, Pb-Free, Tray; Part Number: AD6655-150; Manufacturer: Analog Devices; Channels: 2; Throughput Rate (SPS): 150M; DatasheetVersion: Rev.A; PackageVersion: 041509-A; PackageReference: CP-64-6; PackageDescription: 64-Lead Lead Frame Chip Scale Package [LFCSP_VQ] 9 x 9 mm Body, Very Thin Quad; RoHS: Y; Packing: Tray; Mounting Technology: Surface Mount; Code_JEDEC: MO-220-VMMD-4; ComponentLink1Description: Manufacturer URL; ComponentLink1URL: http://www.analog.com/en/index.html; ComponentLink2Description: Datasheet; ComponentLink2URL: http://www.analog.com/static/imported-files/data_sheets/AD6655.pdf; ComponentLink3Description: Package Specification; ComponentLink3URL: http://www.analog.com/static/imported-files/packages/PKG_PDF/LFCSP(CP)/CP_64_6.pdf; ComponentLink4Description: Product URL; ComponentLink4URL: http://www.analog.com/en/analog-to-digital-converters/integrated-receivers/ad6655/products/product.html
footprint CP-64-6_N (QFN, 64-Leads, Body 9x9mm, Pitch 0.5mm, Thermal Pad 7.5x7.5mm, IPC Medium Density)
footprint CP-64-6_L (QFN, 64-Leads, Body 9x9mm, Pitch 0.5mm, Thermal Pad 7.5x7.5mm, IPC High Density)
footprint CP-64-6_M (QFN, 64-Leads, Body 9x9mm, Pitch 0.5mm, Thermal Pad 7.5x7.5mm, IPC Low Density)
part A pins: 2 D6B|D1- (hiz), 3 D7B|D1+ (hiz), 4 D8B|D2- (hiz), 5 D9B|D2+ (hiz), 6 D10B|D3- (hiz), 7 D11B|D3+ (hiz), 8 D12B|D4- (hiz), 9 D13B (MSB)|D4+ (hiz), 12 D0A (LSB)|D5- (hiz), 13 D1A|D5+ (hiz), 14 D2A|D6- (hiz), 15 D3A|D6+ (hiz), 16 D4A|D7- (hiz), 17 D5A|D7+ (hiz), 18 D6A|D8- (hiz), 19 D7A|D8+ (hiz), 22 D8A|D9- (hiz), 23 D9A|D9+ (hiz), 25 D10A|D10- (hiz), 26 D11A|D10+ (hiz), 27 D12A|D11- (hiz), 28 D13A (MSB)|D11+ (hiz), 29 FD0A|D12- (hiz), 30 FD1A|D12+ (hiz), 31 FD2A|D13-(MSB) (hiz), 32 FD3A|D13+(MSB) (hiz), 37 VIN+A (in) "Differential Analog Input Pin (+) for Channel A.", 38 VIN-A (in) "Differential Analog Input Pin (-) for Channel A.", 43 VIN-B (in) "Differential Analog Input Pin (-) for Channel B.", 44 VIN+B (in) "Differential Analog Input Pin (+) for Channel B.", 53 FD0B|FD0- (hiz), 54 FD1B|FD0+ (hiz), 55 FD2B|FD1- (hiz), 56 FD3B|FD1+ (hiz), 58 D0B (LSB)|FD2- (hiz), 59 D1B|FD2+ (hiz), 60 D2B|FD3- (hiz), 61 D3B|FD3+ (hiz), 62 D4B|D0-(LSB) (hiz), 63 D5B|D0+(LSB) (hiz)
part B pins: 1 DRVDD (power) "Digital Output Driver Supply (1.8 V to 3.3 V).", 10 DCOB|DCO- (hiz), 11 DCOA|DCO+ (hiz), 20 DRGND (power) "Digital Output Ground.", 21 DRVDD (power) "Digital Output Driver Supply (1.8 V to 3.3 V).", 24 DVDD (power) "Digital Power Supply (1.8 V Nominal).", 33 SMI SDO/OEB (io) "Signal Monitor Serial Data Output/Output Enable Input (Active Low) in External Pin Mode.", 34 SMI SCLK/PDWN (io) "Signal Monitor Serial Clock Output/Power-Down Input (Active High) in External Pin Mode", 35 SMI SDFS (out) "Signal Monitor Serial Data Frame Sync", 36 AVDD (power) "Analog Power Supply (1.8 V Nominal).", 39 VREF (io) "Voltage Reference Input/Output.", 40 SENSE (in) "Voltage Reference Mode Select. (See Table 15 for details.)", 41 CML (out) "Common-Mode Level Bias Output for Analog Inputs.", 42 RBIAS "External Reference Bias Resistor.", 45 AVDD (power) "Analog Power Supply (1.8 V Nominal).", 46 AVDD (power) "Analog Power Supply (1.8 V Nominal).", 47 SDIO/DCS (io) "SPI Serial Data I/O/Duty Cycle Stabilizer Pin in External Pin Mode.", 48 SCLK/DFS (in) "SPI Serial Clock/Data Format Select Pin in External Pin Mode.", 49 CLK+ (in) "ADC Clock Input--True.", 50 CLK- (in) "ADC Clock Input--Complement.", 51 CSB (in) "SPI Chip Select. Active low.", 52 SYNC (in) "Digital Synchronization Pin. Slave mode only.", 57 DVDD (power) "Digital Power Supply (1.8 V Nominal).", 64 DRGND (power) "Digital Output Ground.", 65 EP (power) "Analog Ground. The exposed thermal pad on the bottom of the package provides the analog ground for the part. This pad must be connected to ground for proper operation."

## AD6655ABCPZRL7-150
designator U?
Dual IF Diversity Receiver, 150MSPS, -40 to +85 degC, CP-64-6, Pb-Free, Reel; Part Number: AD6655-150; Manufacturer: Analog Devices; Channels: 2; Throughput Rate (SPS): 150M; DatasheetVersion: Rev.A; PackageVersion: 041509-A; PackageReference: CP-64-6; PackageDescription: 64-Lead Lead Frame Chip Scale Package [LFCSP_VQ] 9 x 9 mm Body, Very Thin Quad; RoHS: Y; Packing: Reel; Mounting Technology: Surface Mount; Code_JEDEC: MO-220-VMMD-4; ComponentLink1Description: Manufacturer URL; ComponentLink1URL: http://www.analog.com/en/index.html; ComponentLink2Description: Datasheet; ComponentLink2URL: http://www.analog.com/static/imported-files/data_sheets/AD6655.pdf; ComponentLink3Description: Package Specification; ComponentLink3URL: http://www.analog.com/static/imported-files/packages/PKG_PDF/LFCSP(CP)/CP_64_6.pdf; ComponentLink4Description: Product URL; ComponentLink4URL: http://www.analog.com/en/analog-to-digital-converters/integrated-receivers/ad6655/products/product.html
footprint CP-64-6_N (QFN, 64-Leads, Body 9x9mm, Pitch 0.5mm, Thermal Pad 7.5x7.5mm, IPC Medium Density)
footprint CP-64-6_L (QFN, 64-Leads, Body 9x9mm, Pitch 0.5mm, Thermal Pad 7.5x7.5mm, IPC High Density)
footprint CP-64-6_M (QFN, 64-Leads, Body 9x9mm, Pitch 0.5mm, Thermal Pad 7.5x7.5mm, IPC Low Density)
part A pins: 2 D6B|D1- (hiz), 3 D7B|D1+ (hiz), 4 D8B|D2- (hiz), 5 D9B|D2+ (hiz), 6 D10B|D3- (hiz), 7 D11B|D3+ (hiz), 8 D12B|D4- (hiz), 9 D13B (MSB)|D4+ (hiz), 12 D0A (LSB)|D5- (hiz), 13 D1A|D5+ (hiz), 14 D2A|D6- (hiz), 15 D3A|D6+ (hiz), 16 D4A|D7- (hiz), 17 D5A|D7+ (hiz), 18 D6A|D8- (hiz), 19 D7A|D8+ (hiz), 22 D8A|D9- (hiz), 23 D9A|D9+ (hiz), 25 D10A|D10- (hiz), 26 D11A|D10+ (hiz), 27 D12A|D11- (hiz), 28 D13A (MSB)|D11+ (hiz), 29 FD0A|D12- (hiz), 30 FD1A|D12+ (hiz), 31 FD2A|D13-(MSB) (hiz), 32 FD3A|D13+(MSB) (hiz), 37 VIN+A (in) "Differential Analog Input Pin (+) for Channel A.", 38 VIN-A (in) "Differential Analog Input Pin (-) for Channel A.", 43 VIN-B (in) "Differential Analog Input Pin (-) for Channel B.", 44 VIN+B (in) "Differential Analog Input Pin (+) for Channel B.", 53 FD0B|FD0- (hiz), 54 FD1B|FD0+ (hiz), 55 FD2B|FD1- (hiz), 56 FD3B|FD1+ (hiz), 58 D0B (LSB)|FD2- (hiz), 59 D1B|FD2+ (hiz), 60 D2B|FD3- (hiz), 61 D3B|FD3+ (hiz), 62 D4B|D0-(LSB) (hiz), 63 D5B|D0+(LSB) (hiz)
part B pins: 1 DRVDD (power) "Digital Output Driver Supply (1.8 V to 3.3 V).", 10 DCOB|DCO- (hiz), 11 DCOA|DCO+ (hiz), 20 DRGND (power) "Digital Output Ground.", 21 DRVDD (power) "Digital Output Driver Supply (1.8 V to 3.3 V).", 24 DVDD (power) "Digital Power Supply (1.8 V Nominal).", 33 SMI SDO/OEB (io) "Signal Monitor Serial Data Output/Output Enable Input (Active Low) in External Pin Mode.", 34 SMI SCLK/PDWN (io) "Signal Monitor Serial Clock Output/Power-Down Input (Active High) in External Pin Mode", 35 SMI SDFS (out) "Signal Monitor Serial Data Frame Sync", 36 AVDD (power) "Analog Power Supply (1.8 V Nominal).", 39 VREF (io) "Voltage Reference Input/Output.", 40 SENSE (in) "Voltage Reference Mode Select. (See Table 15 for details.)", 41 CML (out) "Common-Mode Level Bias Output for Analog Inputs.", 42 RBIAS "External Reference Bias Resistor.", 45 AVDD (power) "Analog Power Supply (1.8 V Nominal).", 46 AVDD (power) "Analog Power Supply (1.8 V Nominal).", 47 SDIO/DCS (io) "SPI Serial Data I/O/Duty Cycle Stabilizer Pin in External Pin Mode.", 48 SCLK/DFS (in) "SPI Serial Clock/Data Format Select Pin in External Pin Mode.", 49 CLK+ (in) "ADC Clock Input--True.", 50 CLK- (in) "ADC Clock Input--Complement.", 51 CSB (in) "SPI Chip Select. Active low.", 52 SYNC (in) "Digital Synchronization Pin. Slave mode only.", 57 DVDD (power) "Digital Power Supply (1.8 V Nominal).", 64 DRGND (power) "Digital Output Ground.", 65 EP (power) "Analog Ground. The exposed thermal pad on the bottom of the package provides the analog ground for the part. This pad must be connected to ground for proper operation."

## AD6657ABBCZ
designator U?
Quad IF Receiver, -40 to +85 degC, BC-144-1, Pb-Free, Tray; Part Number: AD6657A; Manufacturer: Analog Devices; Channels: 4; DatasheetVersion: Rev.0; PackageVersion: 012006-0; PackageReference: BC-144-1; PackageDescription: 144-Ball Chip Scale Package Ball Grid Array [CSP_BGA]; RoHS: Y; Packing: Tray; Mounting Technology: Surface Mount; Code_JEDEC: MO-205-AC; ComponentLink1Description: Manufacturer URL; ComponentLink1URL: http://www.analog.com/en/index.html; ComponentLink2Description: Datasheet; ComponentLink2URL: http://www.analog.com/static/imported-files/data_sheets/AD6657A.pdf; ComponentLink3Description: Package Specification; ComponentLink3URL: http://www.analog.com/static/imported-files/packages/453163286836504146030385BC_144_1.pdf; ComponentLink4Description: Product URL; ComponentLink4URL: http://www.analog.com/en/analog-to-digital-converters/integrated-receivers/ad6657a/products/product.html
footprint BC-144-1 (BGA, 144-Leads, Body 10x10mm, Pitch 0.8mm)
part A pins: A10 VIN-B (in) "Differential Analog Input Pin (-) for Channel B.", A11 VIN+B (in) "Differential Analog Input Pin (+) for Channel B.", B10 VCMB (out) "Common-Mode Level Bias Output for Analog Input Channel B.", C12 VIN+A (in) "Differential Analog Input Pin (+) for Channel A.", D11 VCMA (out) "Common-Mode Level Bias Output for Analog Input Channel A.", D12 VIN-A (in) "Differential Analog Input Pin (-) for Channel A.", J7 D0-AB (out) "Channel A and Channel B LVDS Output Data 0--Complement.", J8 D2-AB (out) "Channel A and Channel B LVDS Output Data 2--Complement.", J9 D4-AB (out) "Channel A and Channel B LVDS Output Data 4--Complement.", J10 D6-AB (out) "Channel A and Channel B LVDS Output Data 6--Complement.", J11 D8-AB (out) "Channel A and Channel B LVDS Output Data 8--Complement.", J12 D10-AB (out) "Channel A and Channel B LVDS Output Data 10--Complement.", K7 D0+AB (out) "Channel A and Channel B LVDS Output Data 0--True.", K8 D2+AB (out) "Channel A and Channel B LVDS Output Data 2--True.", K9 D4+AB (out) "Channel A and Channel B LVDS Output Data 4--True.", K10 D6+AB (out) "Channel A and Channel B LVDS Output Data 6--True.", K11 D8+AB (out) "Channel A and Channel B LVDS Output Data 8--True.", K12 D10+AB (out) "Channel A and Channel B LVDS Output Data 10--True.", L7 D1-AB (out) "Channel A and Channel B LVDS Output Data 1--Complement.", L8 D3-AB (out) "Channel A and Channel B LVDS Output Data 3--Complement.", L9 D5-AB (out) "Channel A and Channel B LVDS Output Data 5--Complement.", L10 D7-AB (out) "Channel A and Channel B LVDS Output Data 7--Complement.", L11 D9-AB (out) "Channel A and Channel B LVDS Output Data 9--Complement.", L12 DCO-AB (out) "Data Clock LVDS Output for Channel A and Channel B--Complement.", M7 D1+AB (out) "Channel A and Channel B LVDS Output Data 1--True.", M8 D3+AB (out) "Channel A and Channel B LVDS Output Data 3--True.", M9 D5+AB (out) "Channel A and Channel B LVDS Output Data 5--True.", M10 D7+AB (out) "Channel A and Channel B LVDS Output Data 7--True.", M11 D9+AB (out) "Channel A and Channel B LVDS Output Data 9--True.", M12 DCO+AB (out) "Data Clock LVDS Output for Channel A and Channel B--True."
part B pins: A2 VIN+C (in) "Differential Analog Input Pin (+) for Channel C.", A3 VIN-C (in) "Differential Analog Input Pin (-) for Channel C.", B3 VCMC (out) "Common-Mode Level Bias Output for Analog Input Channel C.", C1 VIN+D (in) "Differential Analog Input Pin (+) for Channel D.", D1 VIN-D (in) "Differential Analog Input Pin (-) for Channel D.", D2 VCMD (out) "Common-Mode Level Bias Output for Analog Input Channel D.", J1 D0-CD (out) "Channel C and Channel D LVDS Output Data 0--Complement.", J2 D2-CD (out) "Channel C and Channel D LVDS Output Data 2--Complement.", J3 D4-CD (out) "Channel C and Channel D LVDS Output Data 4--Complement.", J4 D6-CD (out) "Channel C and Channel D LVDS Output Data 6--Complement.", J5 D8-CD (out) "Channel C and Channel D LVDS Output Data 8--Complement.", J6 D10-CD (out) "Channel C and Channel D LVDS Output Data 10--Complement.", K1 D0+CD (out) "Channel C and Channel D LVDS Output Data 0--True.", K2 D2+CD (out) "Channel C and Channel D LVDS Output Data 2--True.", K3 D4+CD (out) "Channel C and Channel D LVDS Output Data 4--True.", K4 D6+CD (out) "Channel C and Channel D LVDS Output Data 6--True.", K5 D8+CD (out) "Channel C and Channel D LVDS Output Data 8--True.", K6 D10+CD (out) "Channel C and Channel D LVDS Output Data 10--True.", L1 D1-CD (out) "Channel C and Channel D LVDS Output Data 1--Complement.", L2 D3-CD (out) "Channel C and Channel D LVDS Output Data 3--Complement.", L3 D5-CD (out) "Channel C and Channel D LVDS Output Data 5--Complement.", L4 D7-CD (out) "Channel C and Channel D LVDS Output Data 7--Complement.", L5 D9-CD (out) "Channel C and Channel D LVDS Output Data 9--Complement.", L6 DCO-CD (out) "Data Clock LVDS Output for Channel C and Channel D--Complement.", M1 D1+CD (out) "Channel C and Channel D LVDS Output Data 1--True.", M2 D3+CD (out) "Channel C and Channel D LVDS Output Data 3--True.", M3 D5+CD (out) "Channel C and Channel D LVDS Output Data 5--True.", M4 D7+CD (out) "Channel C and Channel D LVDS Output Data 7--True.", M5 D9+CD (out) "Channel C and Channel D LVDS Output Data 9--True.", M6 DCO+CD (out) "Data Clock LVDS Output for Channel C and Channel D--True."
part C pins: A6 CLK- (in) "ADC Clock Input--Complement.", A7 CLK+ (in) "ADC Clock Input--True.", C4 CSB (in) "SPI Chip Select (Active Low).", C5 SDIO (io) "SPI Data.", C6 SCLK (in) "SPI Clock.", C7 PDWN (in) "Power-Down Input (Active High).", C8 SYNC (in) "Digital Synchronization Pin.", C9 MODE (in) "Mode Select Pin. Logic low enables NSR; logic high disables NSR."
part D pins: G1 DRGND (power) "Digital Output Driver Ground.", G2 DRGND (power) "Digital Output Driver Ground.", G3 DRGND (power) "Digital Output Driver Ground.", G4 DRGND (power) "Digital Output Driver Ground.", G5 DRGND (power) "Digital Output Driver Ground.", G6 DRGND (power) "Digital Output Driver Ground.", G7 DRGND (power) "Digital Output Driver Ground.", G8 DRGND (power) "Digital Output Driver Ground.", G9 DRGND (power) "Digital Output Driver Ground.", G10 DRGND (power) "Digital Output Driver Ground.", G11 DRGND (power) "Digital Output Driver Ground.", G12 DRGND (power) "Digital Output Driver Ground.", H1 DRVDD (power) "Digital Output Driver Supply. 1.8 V nominal.", H2 DRVDD (power) "Digital Output Driver Supply. 1.8 V nominal.", H3 DRVDD (power) "Digital Output Driver Supply. 1.8 V nominal.", H4 DRVDD (power) "Digital Output Driver Supply. 1.8 V nominal.", H5 DRVDD (power) "Digital Output Driver Supply. 1.8 V nominal.", H6 DRVDD (power) "Digital Output Driver Supply. 1.8 V nominal.", H7 DRVDD (power) "Digital Output Driver Supply. 1.8 V nominal.", H8 DRVDD (power) "Digital Output Driver Supply. 1.8 V nominal.", H9 DRVDD (power) "Digital Output Driver Supply. 1.8 V nominal.", H10 DRVDD (power) "Digital Output Driver Supply. 1.8 V nominal.", H11 DRVDD (power) "Digital Output Driver Supply. 1.8 V nominal.", H12 DRVDD (power) "Digital Output Driver Supply. 1.8 V nominal."
part E pins: A1 AGND (power) "Analog Ground.", A4 AGND (power) "Analog Ground.", A5 AVDD (power) "Analog Power Supply. 1.8 V nominal.", A8 AVDD (power) "Analog Power Supply. 1.8 V nominal.", A9 AGND (power) "Analog Ground.", A12 AGND (power) "Analog Ground.", B1 AGND (power) "Analog Ground.", B2 AGND (power) "Analog Ground.", B4 AGND (power) "Analog Ground.", B5 AVDD (power) "Analog Power Supply. 1.8 V nominal.", B6 AVDD (power) "Analog Power Supply. 1.8 V nominal.", B7 AVDD (power) "Analog Power Supply. 1.8 V nominal.", B8 AVDD (power) "Analog Power Supply. 1.8 V nominal.", B9 AGND (power) "Analog Ground.", B11 AGND (power) "Analog Ground.", B12 AGND (power) "Analog Ground.", C2 AGND (power) "Analog Ground.", C3 AGND (power) "Analog Ground.", C10 AGND (power) "Analog Ground.", C11 AGND (power) "Analog Ground.", D3 AGND (power) "Analog Ground.", D4 AVDD (power) "Analog Power Supply. 1.8 V nominal.", D5 AVDD (power) "Analog Power Supply. 1.8 V nominal.", D6 AVDD (power) "Analog Power Supply. 1.8 V nominal.", D7 AVDD (power) "Analog Power Supply. 1.8 V nominal.", D8 AVDD (power) "Analog Power Supply. 1.8 V nominal.", D9 AVDD (power) "Analog Power Supply. 1.8 V nominal.", D10 AGND (power) "Analog Ground.", E1 AGND (power) "Analog Ground.", E2 AVDD (power) "Analog Power Supply. 1.8 V nominal.", E3 AVDD (power) "Analog Power Supply. 1.8 V nominal.", E4 AVDD (power) "Analog Power Supply. 1.8 V nominal.", E5 AVDD (power) "Analog Power Supply. 1.8 V nominal.", E6 AVDD (power) "Analog Power Supply. 1.8 V nominal.", E7 AVDD (power) "Analog Power Supply. 1.8 V nominal.", E8 AVDD (power) "Analog Power Supply. 1.8 V nominal.", E9 AVDD (power) "Analog Power Supply. 1.8 V nominal.", E10 AVDD (power) "Analog Power Supply. 1.8 V nominal.", E11 AVDD (power) "Analog Power Supply. 1.8 V nominal.", E12 AGND (power) "Analog Ground.", F1 AGND (power) "Analog Ground.", F2 AGND (power) "Analog Ground.", F3 AGND (power) "Analog Ground.", F4 AGND (power) "Analog Ground.", F5 AGND (power) "Analog Ground.", F6 AGND (power) "Analog Ground.", F7 AGND (power) "Analog Ground.", F8 AGND (power) "Analog Ground.", F9 AGND (power) "Analog Ground.", F10 AGND (power) "Analog Ground.", F11 AGND (power) "Analog Ground.", F12 AGND (power) "Analog Ground."

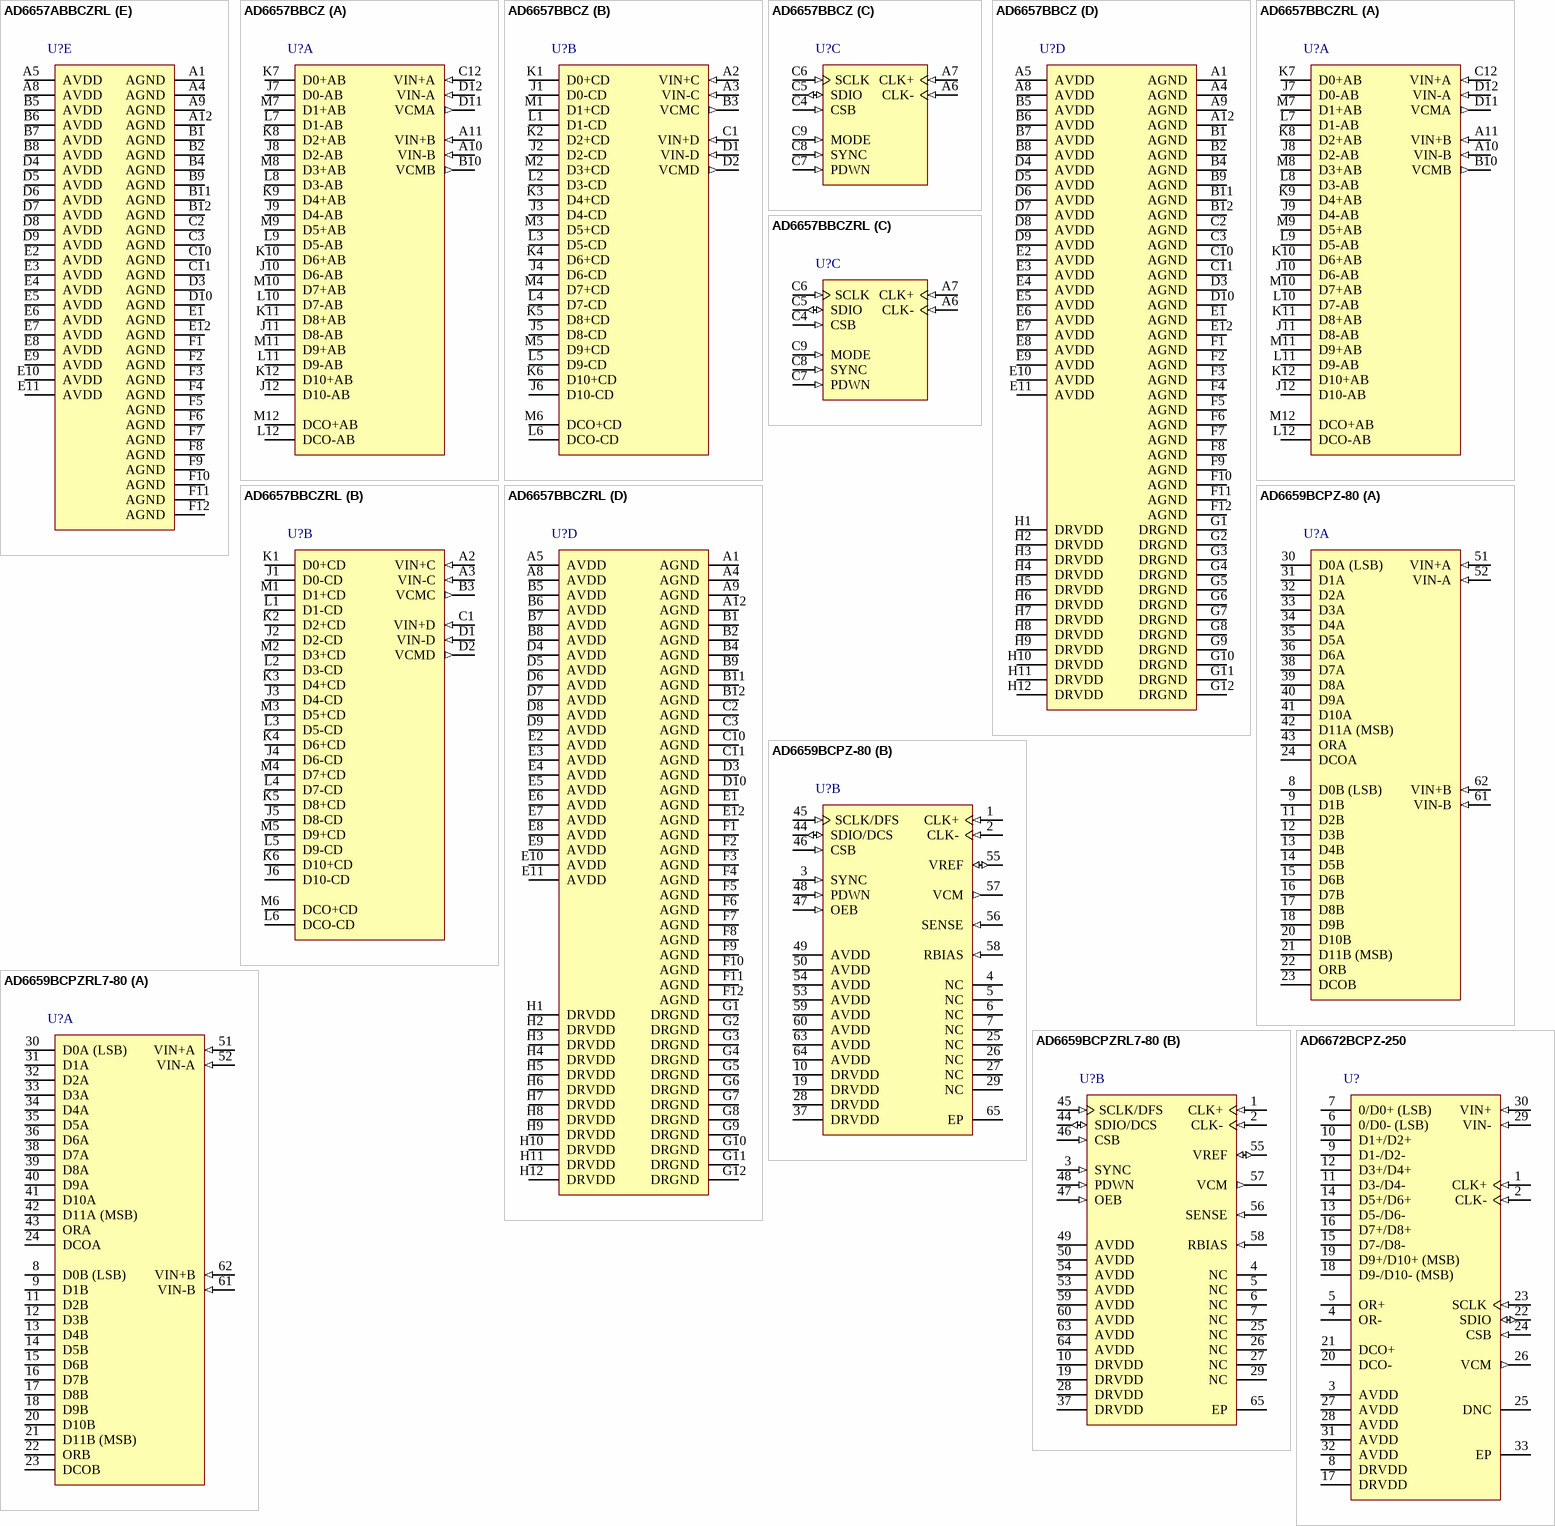
[diagram p12: symbols AD6657ABBCZRL to AD6672BCPZ-250]